# Altium footprint library SIGMA_2D.PcbLib: 200 footprints (part 8 of 13)
Each footprint in its own frame and in the unit in brackets; x right, y up, seen from the top. Pads: shape width x height; smd on the part's side, far side on the other; paste and mask are expansions set on the pad; w line width, h text height; cw(c..) or ccw(c..) is an arc to the next point about the centre after c.
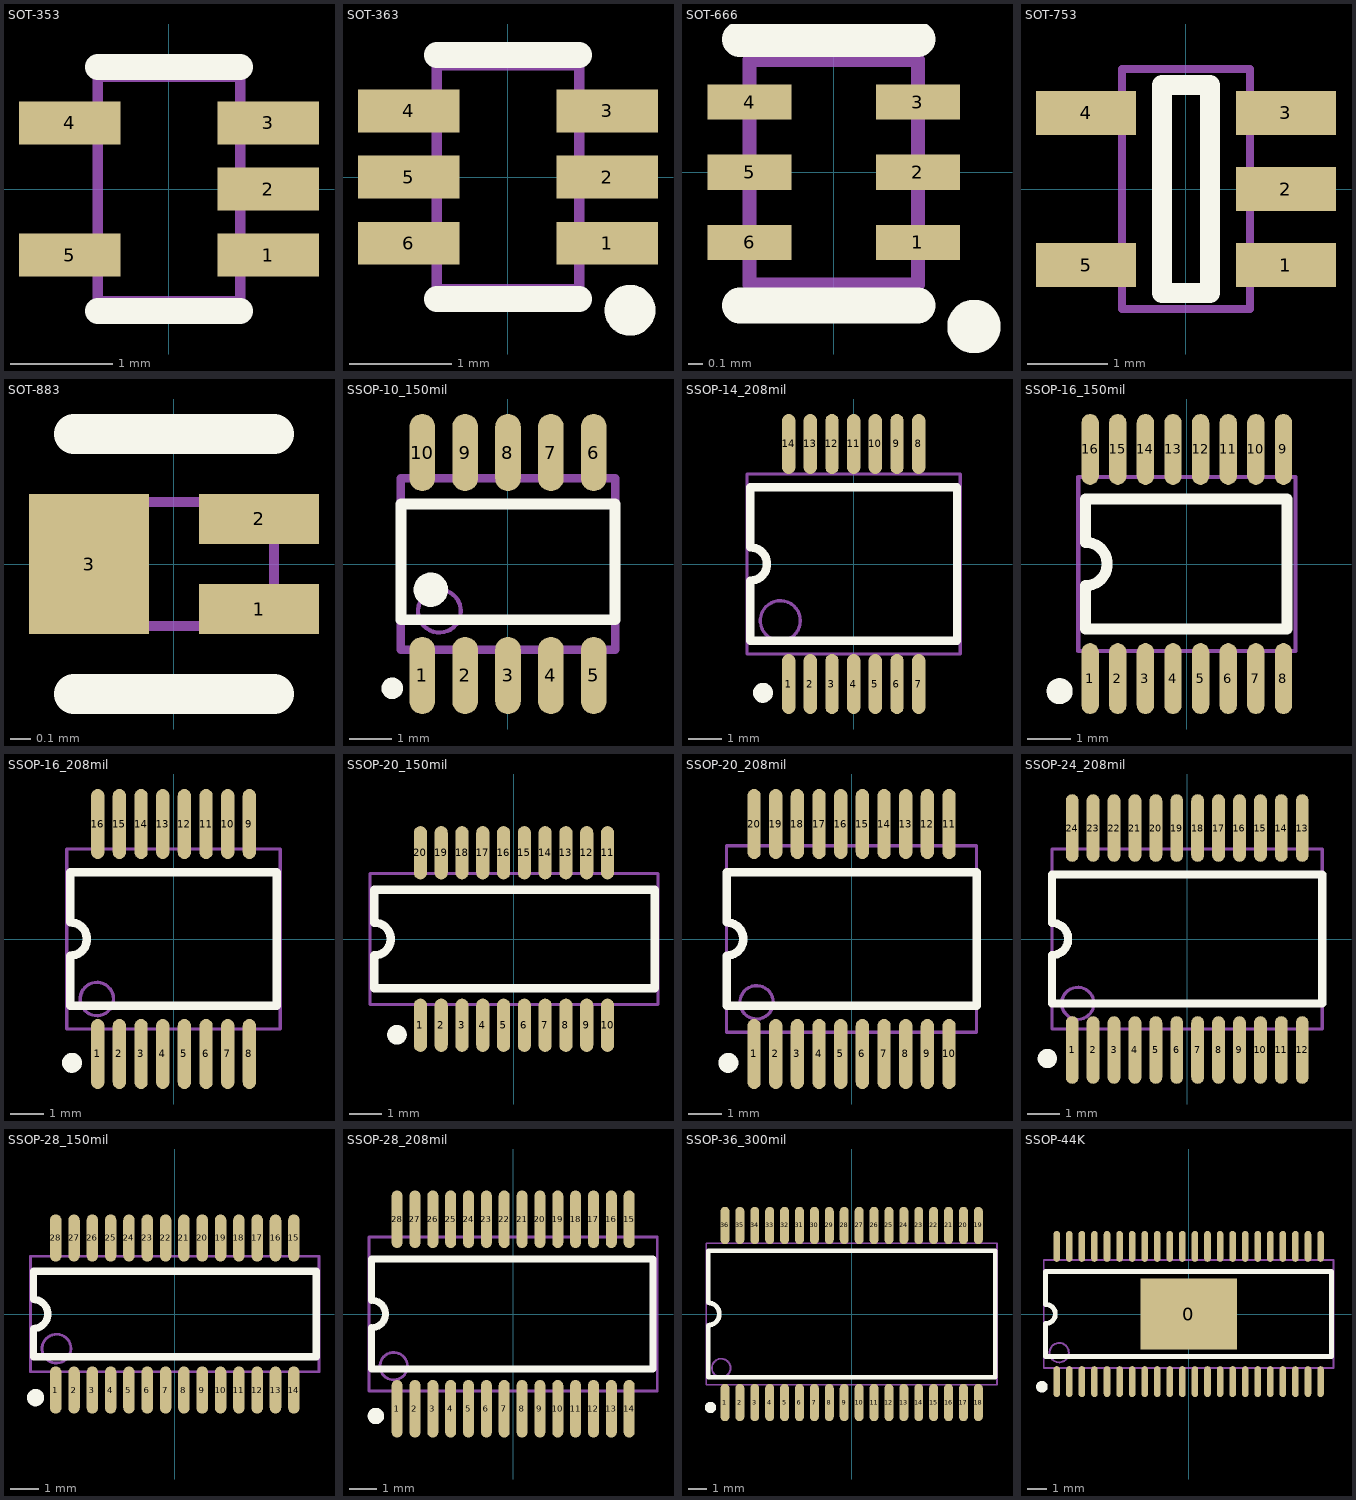
[diagram p7: the footprints below, top view; thin cyan lines are the x and y axes]

## SOT-353 [mm]
pads (5):
  rect 1x0.42 smd mask+0.051: 1(0.975,-0.65) 2(0.975,0) 3(0.975,0.65) 4(-0.975,0.65) 5(-0.975,-0.65)
Top Overlay:
  lines w0.254: -0.7,-1.2 0.7,-1.2 ; -0.7,1.2 0.7,1.2
Mechanical 13:
  lines w0.1: -0.7,-1.1 0.7,-1.1 0.7,1.1 -0.7,1.1 -0.7,-1.1

## SOT-363 [mm]
pads (6):
  rect 1x0.42 smd mask+0.051: 1(0.975,-0.65) 2(0.975,0) 3(0.975,0.65) 4(-0.975,0.65) 5(-0.975,0) 6(-0.975,-0.65)
Top Overlay:
  circle w0.25: c1.2,-1.31 r0.125
  lines w0.254: -0.7,-1.2 0.7,-1.2 ; -0.7,1.2 0.7,1.2
Mechanical 13:
  lines w0.1: -0.7,-1.1 0.7,-1.1 0.7,1.1 -0.7,1.1 -0.7,-1.1

## SOT-666 [mm]
pads (6):
  rect 0.6x0.25 smd mask+0.051: 1(0.6,-0.5) 2(0.6,0) 3(0.6,0.5) 4(-0.6,0.5) 5(-0.6,0) 6(-0.6,-0.5)
Top Overlay:
  circle w0.203: c1,-1.1 r0.089
  lines w0.254: -0.67,-0.95 0.6,-0.95 ; -0.67,0.95 0.6,0.95
Mechanical 13:
  lines w0.1: -0.6,-0.8 0.6,-0.8 0.6,0.8 -0.6,0.8 -0.6,-0.8

## SOT-753 [mm]
pads (5):
  rect 1.25x0.55 smd: 1(1.25,-0.95) 2(1.25,0) 3(1.25,0.95) 4(-1.25,0.95) 5(-1.25,-0.95)
Top Overlay:
  lines w0.254: -0.3,-1.3 -0.3,1.3 0.3,1.3 0.3,-1.3 -0.3,-1.3
Mechanical 13:
  lines w0.1: -0.8,-1.5 0.8,-1.5 0.8,1.5 -0.8,1.5 -0.8,-1.5

## SOT-883 [mm]
pads (3):
  rect 0.6x0.25 smd mask+0.051: 1(0.425,-0.225) 2(0.425,0.225)
  rect 0.6x0.7 smd mask+0.051: 3(-0.425,0)
Top Overlay:
  lines w0.2: -0.5,-0.65 0.5,-0.65 ; -0.5,0.65 0.5,0.65
Mechanical 13:
  lines w0.051: -0.5,-0.31 0.5,-0.31 0.5,0.31 -0.5,0.31 -0.5,-0.31

## SSOP-10_150mil [mm]
pads (10):
  oval 0.6x1.8 smd: 1(-2,-2.6) 2(-1,-2.6) 3(0,-2.6) 4(1,-2.6) 5(2,-2.6) 6(2,2.6) 7(1,2.6) 8(0,2.6) 9(-1,2.6) 10(-2,2.6)
Top Overlay:
  circle w0.25: c-2.7,-2.9 r0.125
  circle w0.4: c-1.8,-0.6 r0.2
  lines w0.254: -2.5,-1.3 -2.5,1.4 2.5,1.4 2.5,-1.3 -2.5,-1.3
Mechanical 13:
  circle w0.1: c-1.6,-1.1 r0.5
  lines w0.2: -2.5,-2 -2.5,2 2.5,2 2.5,-2 -2.5,-2

## SSOP-14_208mil [mm]
pads (14):
  oval 0.4x1.8 smd mask+0.051: 1(-1.95,-3.6) 2(-1.3,-3.6) 3(-0.65,-3.6) 4(0,-3.6) 5(0.65,-3.6) 6(1.3,-3.6) 7(1.95,-3.6) 8(1.95,3.6) 9(1.3,3.6) 10(0.65,3.6) 11(0,3.6) 12(-0.65,3.6) 13(-1.3,3.6) 14(-1.95,3.6)
Top Overlay:
  circle w0.3: c-2.722,-3.865 r0.15
  lines w0.254: -3.1,-2.3 -3.1,-0.5 ccw(c-3.1,0) -3.1,0.5 -3.1,2.3 3.1,2.3 3.1,-2.3 -3.1,-2.3
Mechanical 13:
  circle w0.1: c-2.2,-1.7 r0.6
  lines w0.1: -3.2,-2.7 3.2,-2.7 3.2,2.7 -3.2,2.7 -3.2,-2.7

## SSOP-16_150mil [mm]
pads (16):
  oval 0.4x1.63 smd mask+0.051: 1(-2.222,-2.635) 2(-1.587,-2.635) 3(-0.952,-2.635) 4(-0.317,-2.635) 5(0.318,-2.635) 6(0.953,-2.635) 7(1.588,-2.635) 8(2.223,-2.635) 9(2.223,2.635) 10(1.588,2.635) 11(0.953,2.635) 12(0.318,2.635) 13(-0.317,2.635) 14(-0.952,2.635) 15(-1.587,2.635) 16(-2.222,2.635)
Top Overlay:
  circle w0.3: c-2.925,-2.925 r0.15
  lines w0.254: -2.33,-1.5 -2.33,-0.5 ccw(c-2.33,0) -2.33,0.5 -2.33,1.5 2.3,1.5 2.3,-1.5 -2.33,-1.5
Mechanical 13:
  lines w0.1: -2.5,-2 2.5,-2 2.5,2 -2.5,2 -2.5,-2

## SSOP-16_208mil [mm]
pads (16):
  oval 0.4x2.1 smd mask+0.051: 1(-2.275,-3.45) 2(-1.625,-3.45) 3(-0.975,-3.45) 4(-0.325,-3.45) 5(0.325,-3.45) 6(0.975,-3.45) 7(1.625,-3.45) 8(2.275,-3.45) 9(2.275,3.45) 10(1.625,3.45) 11(0.975,3.45) 12(0.325,3.45) 13(-0.325,3.45) 14(-0.975,3.45) 15(-1.625,3.45) 16(-2.275,3.45)
Top Overlay:
  circle w0.3: c-3.047,-3.715 r0.15
  lines w0.254: -3.1,-2 -3.1,-0.5 ccw(c-3.1,0) -3.1,0.5 -3.1,2 3.1,2 3.1,-2 -3.1,-2
Mechanical 13:
  circle w0.1: c-2.3,-1.8 r0.5
  lines w0.1: -3.2,-2.7 3.2,-2.7 3.2,2.7 -3.2,2.7 -3.2,-2.7

## SSOP-20_150mil [mm]
pads (20):
  oval 0.4x1.63 smd mask+0.051: 1(-2.857,-2.635) 2(-2.222,-2.635) 3(-1.587,-2.635) 4(-0.953,-2.635) 5(-0.318,-2.635) 6(0.318,-2.635) 7(0.953,-2.635) 8(1.587,-2.635) 9(2.222,-2.635) 10(2.857,-2.635) 11(2.857,2.635) 12(2.222,2.635) 13(1.587,2.635) 14(0.953,2.635) 15(0.318,2.635) 16(-0.318,2.635) 17(-0.953,2.635) 18(-1.587,2.635) 19(-2.222,2.635) 20(-2.857,2.635)
Top Overlay:
  circle w0.3: c-3.575,-2.925 r0.15
  lines w0.254: -4.265,-1.5 -4.265,-0.5 ccw(c-4.265,0) -4.265,0.5 -4.265,1.5 4.3,1.5 4.3,-1.5 -4.265,-1.5
Mechanical 13:
  lines w0.1: -4.4,-2 -4.4,2 4.4,2 4.4,-2 -4.4,-2

## SSOP-20_208mil [mm]
pads (20):
  oval 0.4x2.1 smd mask+0.051: 1(-2.925,-3.45) 2(-2.275,-3.45) 3(-1.625,-3.45) 4(-0.975,-3.45) 5(-0.325,-3.45) 6(0.325,-3.45) 7(0.975,-3.45) 8(1.625,-3.45) 9(2.275,-3.45) 10(2.925,-3.45) 11(2.925,3.45) 12(2.275,3.45) 13(1.625,3.45) 14(0.975,3.45) 15(0.325,3.45) 16(-0.325,3.45) 17(-0.975,3.45) 18(-1.625,3.45) 19(-2.275,3.45) 20(-2.925,3.45)
Top Overlay:
  circle w0.3: c-3.697,-3.715 r0.15
  lines w0.254: -3.75,-2 3.75,-2 3.75,2 -3.75,2 -3.75,0.5 cw(c-3.75,0) -3.75,-0.5 -3.75,-2
Mechanical 13:
  circle w0.1: c-2.85,-1.9 r0.5
  lines w0.1: -3.75,-2.8 -3.75,2.8 3.75,2.8 3.75,-2.8 -3.75,-2.8

## SSOP-24_208mil [mm]
pads (24):
  oval 0.4x2.1 smd mask+0.051: 1(-3.575,-3.45) 2(-2.925,-3.45) 3(-2.275,-3.45) 4(-1.625,-3.45) 5(-0.975,-3.45) 6(-0.325,-3.45) 7(0.325,-3.45) 8(0.975,-3.45) 9(1.625,-3.45) 10(2.275,-3.45) 11(2.925,-3.45) 12(3.575,-3.45) 13(3.575,3.45) 14(2.925,3.45) 15(2.275,3.45) 16(1.625,3.45) 17(0.975,3.45) 18(0.325,3.45) 19(-0.325,3.45) 20(-0.975,3.45) 21(-1.625,3.45) 22(-2.275,3.45) 23(-2.925,3.45) 24(-3.575,3.45)
Top Overlay:
  circle w0.3: c-4.347,-3.715 r0.15
  lines w0.254: -4.2,-2 -4.2,-0.5 ccw(c-4.2,0) -4.2,0.5 -4.2,2 4.2,2 4.2,-2 -4.2,-2
Mechanical 13:
  circle w0.1: c-3.4,-2 r0.5
  lines w0.1: -4.2,-2.8 -4.2,2.8 4.2,2.8 4.2,-2.8 -4.2,-2.8

## SSOP-28_150mil [mm]
pads (28):
  oval 0.4x1.63 smd mask+0.051: 1(-4.127,-2.635) 2(-3.492,-2.635) 3(-2.857,-2.635) 4(-2.222,-2.635) 5(-1.587,-2.635) 6(-0.952,-2.635) 7(-0.317,-2.635) 8(0.318,-2.635) 9(0.953,-2.635) 10(1.588,-2.635) 11(2.223,-2.635) 12(2.858,-2.635) 13(3.493,-2.635) 14(4.128,-2.635) 15(4.128,2.635) 16(3.493,2.635) 17(2.858,2.635) 18(2.223,2.635) 19(1.588,2.635) 20(0.953,2.635) 21(0.318,2.635) 22(-0.317,2.635) 23(-0.952,2.635) 24(-1.587,2.635) 25(-2.222,2.635) 26(-2.857,2.635) 27(-3.492,2.635) 28(-4.127,2.635)
Top Overlay:
  circle w0.3: c-4.825,-2.9 r0.15
  lines w0.254: -4.9,-1.48 -4.9,-0.5 ccw(c-4.9,0) -4.9,0.5 -4.9,1.48 4.9,1.48 4.9,-1.48 -4.9,-1.48
Mechanical 13:
  circle w0.1: c-4.1,-1.2 r0.5
  lines w0.1: -5,-2 5,-2 5,2 -5,2 -5,-2

## SSOP-28_208mil [mm]
pads (28):
  oval 0.4x2.1 smd mask+0.051: 1(-4.225,-3.45) 2(-3.575,-3.45) 3(-2.925,-3.45) 4(-2.275,-3.45) 5(-1.625,-3.45) 6(-0.975,-3.45) 7(-0.325,-3.45) 8(0.325,-3.45) 9(0.975,-3.45) 10(1.625,-3.45) 11(2.275,-3.45) 12(2.925,-3.45) 13(3.575,-3.45) 14(4.225,-3.45) 15(4.225,3.45) 16(3.575,3.45) 17(2.925,3.45) 18(2.275,3.45) 19(1.625,3.45) 20(0.975,3.45) 21(0.325,3.45) 22(-0.325,3.45) 23(-0.975,3.45) 24(-1.625,3.45) 25(-2.275,3.45) 26(-2.925,3.45) 27(-3.575,3.45) 28(-4.225,3.45)
Top Overlay:
  circle w0.3: c-4.998,-3.715 r0.15
  lines w0.254: -5.15,-2 -5.15,-0.5 ccw(c-5.15,0) -5.15,0.5 -5.15,2 5.1,2 5.1,-2 -5.15,-2
Mechanical 13:
  circle w0.1: c-4.35,-1.9 r0.5
  lines w0.1: -5.25,-2.8 -5.25,2.8 5.25,2.8 5.25,-2.8 -5.25,-2.8

## SSOP-36_300mil [mm]
pads (36):
  oval 0.48x2 smd: 1(-6.8,-4.75) 2(-6,-4.75) 3(-5.2,-4.75) 4(-4.4,-4.75) 5(-3.6,-4.75) 6(-2.8,-4.75) 7(-2,-4.75) 8(-1.2,-4.75) 9(-0.4,-4.75) 10(0.4,-4.75) 11(1.2,-4.75) 12(2,-4.75) 13(2.8,-4.75) 14(3.6,-4.75) 15(4.4,-4.75) 16(5.2,-4.75) 17(6,-4.75) 18(6.8,-4.75) 19(6.8,4.75) 20(6,4.75) 21(5.2,4.75) 22(4.4,4.75) 23(3.6,4.75) 24(2.8,4.75) 25(2,4.75) 26(1.2,4.75) 27(0.4,4.75) 28(-0.4,4.75) 29(-1.2,4.75) 30(-2,4.75) 31(-2.8,4.75) 32(-3.6,4.75) 33(-4.4,4.75) 34(-5.2,4.75) 35(-6,4.75) 36(-6.8,4.75)
Top Overlay:
  circle w0.3: c-7.572,-5.015 r0.15
  lines w0.254: -7.7,-3.4 7.7,-3.4 7.7,3.4 -7.7,3.4 -7.7,0.6 cw(c-7.7,0) -7.7,-0.6 -7.7,-3.4
Mechanical 13:
  circle w0.1: c-7,-2.9 r0.5
  lines w0.1: -7.8,-3.8 7.8,-3.8 7.8,3.8 -7.8,3.8 -7.8,-3.8

## SSOP-44K [mm]
pads (45):
  rect 5x3.7 smd: 0(0,0)
  oval 0.34x1.6 smd: 1(-6.825,-3.5) 2(-6.175,-3.5) 3(-5.525,-3.5) 4(-4.875,-3.5) 5(-4.225,-3.5) 6(-3.575,-3.5) 7(-2.925,-3.5) 8(-2.275,-3.5) 9(-1.625,-3.5) 10(-0.975,-3.5) 11(-0.325,-3.5) 12(0.325,-3.5) 13(0.975,-3.5) 14(1.625,-3.5) 15(2.275,-3.5) 16(2.925,-3.5) 17(3.575,-3.5) 18(4.225,-3.5) 19(4.875,-3.5) 20(5.525,-3.5) 21(6.175,-3.5) 22(6.825,-3.5) 23(6.825,3.5) 24(6.175,3.5) 25(5.525,3.5) 26(4.875,3.5) 27(4.225,3.5) 28(3.575,3.5) 29(2.925,3.5) 30(2.275,3.5) 31(1.625,3.5) 32(0.975,3.5) 33(0.325,3.5) 34(-0.325,3.5) 35(-0.975,3.5) 36(-1.625,3.5) 37(-2.275,3.5) 38(-2.925,3.5) 39(-3.575,3.5) 40(-4.225,3.5) 41(-4.875,3.5) 42(-5.525,3.5) 43(-6.175,3.5) 44(-6.825,3.5)
Top Overlay:
  circle w0.3: c-7.597,-3.765 r0.15
  lines w0.254: -7.4,-2.2 7.4,-2.2 7.4,2.2 -7.4,2.2 -7.4,0.5 cw(c-7.4,0) -7.4,-0.5 -7.4,-2.2
Mechanical 13:
  circle w0.1: c-6.7,-2 r0.5
  lines w0.1: -7.5,-2.8 7.5,-2.8 7.5,2.8 -7.5,2.8 -7.5,-2.8